# Altium footprint library Footprint_Joystick.PcbLib: 4 footprints
Each footprint in its own frame and in the unit in brackets; x right, y up, seen from the top. Pads: shape width x height; smd on the part's side, far side on the other; paste and mask are expansions set on the pad; w line width, h text height; cw(c..) or ccw(c..) is an arc to the next point about the centre after c.
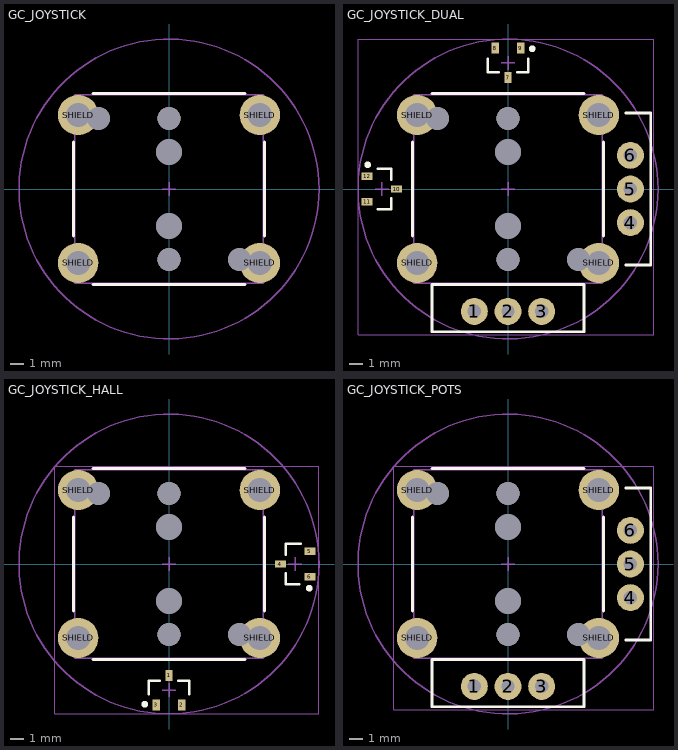
[diagram p0: the footprints below, top view; thin cyan lines are the x and y axes]

## GC_JOYSTICK [mm]
pads (10):
  round 3 hole 1.8: SHIELD(-6.75,-5.5) SHIELD(-6.75,5.5) SHIELD(6.75,-5.5) SHIELD(6.75,5.5)
  round 1.7 hole 1.7 unplated: SHIELD(-5.25,5.25) SHIELD(5.25,-5.25) ""(0,-5.25) ""(0,5.25)
  round 1.9 hole 1.9 unplated: ""(0,-2.75) ""(0,2.75)
Top Overlay:
  lines w0.2: -7.1,-3.5 -7.1,3.5 ; -5.65,-7.1 5.65,-7.1 ; -5.65,7.1 5.65,7.1 ; 7.1,-3.5 7.1,3.5
Top Assembly:
  circle w0.1: c0,0 r11.15
  lines w0.1: -7,-7 7,-7 7,7 -7,7 -7,-7
  text ".Designator" at -7.747,-1.27 h1.27
Top Courtyard:
  lines w0.1: -0.5,0 0.5,0 ; 0,-0.5 0,0.5

## GC_JOYSTICK_DUAL [mm]
pads (22):
  round 2 hole 1: 1(-2.5,-9.1) 2(0,-9.1) 3(2.5,-9.1) 4(9.1,-2.5) 5(9.1,0) 6(9.1,2.5)
  rect 0.55x0.8 smd: 7(0,8.28) 8(-0.95,10.48) 9(0.95,10.48)
  rect 0.8x0.55 smd: 10(-8.28,0) 11(-10.48,-0.95) 12(-10.48,0.95)
  round 3 hole 1.8: SHIELD(-6.75,-5.5) SHIELD(-6.75,5.5) SHIELD(6.75,-5.5) SHIELD(6.75,5.5)
  round 1.7 hole 1.7 unplated: ""(-5.25,5.25) ""(0,-5.25) ""(0,5.25) ""(5.25,-5.25)
  round 1.9 hole 1.9 unplated: ""(0,-2.75) ""(0,2.75)
Top Overlay:
  circle w0.25: c1.8,10.43 r0.125
  circle w0.25: c-10.43,1.8 r0.125
  lines w0.2: -9.68,-1.5 -8.68,-1.5 -8.68,-0.7 ; -9.68,1.5 -8.68,1.5 -8.68,0.7 ; -7.1,-3.5 -7.1,3.5 ; -5.65,7.1 5.65,7.1 ; -1.5,9.68 -1.5,8.68 -0.7,8.68 ; 0.7,8.68 1.5,8.68 1.5,9.68 ; 7.1,-3.5 7.1,3.5 ; 8.75,-5.65 10.6,-5.65 10.6,5.65 8.75,5.65 ; -5.65,-10.6 -5.65,-7.1 5.65,-7.1 5.65,-10.6 -5.65,-10.6
Top Assembly:
  circle w0.1: c0,0 r11.15
  lines w0.1: -7,-7 -7,7 7,7 7,-7 -7,-7
  text ".Designator" at -7.747,-1.27 h1.27
Top Courtyard:
  lines w0.05: -11.13,-10.85 -11.13,11.13 10.85,11.13 10.85,-10.85 -11.13,-10.85
  lines w0.1: -9.88,0 -8.88,0 ; -9.38,-0.5 -9.38,0.5 ; -0.5,0 0.5,0 ; -0.5,9.38 0.5,9.38 ; 0,-0.5 0,0.5 ; 0,8.88 0,9.88
3D body "SOT95P237X112-3N.step": height 1.12, standoff 0, extent -1.52,8.06 1.52,10.7
3D body "SOT95P237X112-3N.step": height 1.12, standoff 0, extent -10.7,-1.52 -8.06,1.52

## GC_JOYSTICK_HALL [mm]
pads (16):
  rect 0.55x0.8 smd: 1(0,-8.28) 2(0.95,-10.48) 3(-0.95,-10.48)
  rect 0.8x0.55 smd: 4(8.28,0) 5(10.48,0.95) 6(10.48,-0.95)
  round 3 hole 1.8: SHIELD(-6.75,-5.5) SHIELD(-6.75,5.5) SHIELD(6.75,-5.5) SHIELD(6.75,5.5)
  round 1.7 hole 1.7 unplated: ""(-5.25,5.25) ""(0,-5.25) ""(0,5.25) ""(5.25,-5.25)
  round 1.9 hole 1.9 unplated: ""(0,-2.75) ""(0,2.75)
Top Overlay:
  circle w0.25: c10.43,-1.8 r0.125
  circle w0.25: c-1.8,-10.43 r0.125
  lines w0.2: -7.1,-3.5 -7.1,3.5 ; -5.65,-7.1 5.65,-7.1 ; -5.65,7.1 5.65,7.1 ; -1.5,-9.68 -1.5,-8.68 -0.7,-8.68 ; 0.7,-8.68 1.5,-8.68 1.5,-9.68 ; 7.1,-3.5 7.1,3.5 ; 8.68,-0.7 8.68,-1.5 9.68,-1.5 ; 8.68,0.7 8.68,1.5 ; 8.78,1.5 9.78,1.5
Top Assembly:
  circle w0.1: c0,0 r11.15
  lines w0.1: -7,-7 -7,7 7,7 7,-7 -7,-7
  text ".Designator" at -7.747,-1.27 h1.27
Top Courtyard:
  lines w0.05: -8.5,-11.13 11.13,-11.13 11.13,7.25 -8.5,7.25 -8.5,-11.13
  lines w0.1: -0.5,-9.38 0.5,-9.38 ; -0.5,0 0.5,0 ; 0,-9.88 0,-8.88 ; 0,-0.5 0,0.5 ; 8.88,0 9.88,0 ; 9.38,-0.5 9.38,0.5
3D body "SOT95P237X112-3N.step": height 1.12, standoff 0, extent 8.06,-1.52 10.7,1.52
3D body "SOT95P237X112-3N.step": height 1.12, standoff 0, extent -1.52,-10.7 1.52,-8.06

## GC_JOYSTICK_POTS [mm]
pads (16):
  round 2 hole 1: 1(-2.5,-9.1) 2(0,-9.1) 3(2.5,-9.1) 4(9.1,-2.5) 5(9.1,0) 6(9.1,2.5)
  round 3 hole 1.8: SHIELD(-6.75,-5.5) SHIELD(-6.75,5.5) SHIELD(6.75,-5.5) SHIELD(6.75,5.5)
  round 1.7 hole 1.7 unplated: SHIELD(-5.25,5.25) SHIELD(5.25,-5.25) ""(0,-5.25) ""(0,5.25)
  round 1.9 hole 1.9 unplated: ""(0,-2.75) ""(0,2.75)
Top Overlay:
  lines w0.2: -7.1,-3.5 -7.1,3.5 ; -5.65,7.1 5.65,7.1 ; 7.1,-3.5 7.1,3.5 ; 8.75,-5.65 10.6,-5.65 10.6,5.65 8.75,5.65 ; -5.65,-10.6 -5.65,-7.1 5.65,-7.1 5.65,-10.6 -5.65,-10.6
Top Assembly:
  circle w0.1: c0,0 r11.15
  lines w0.1: -7,-7 7,-7 7,7 -7,7 -7,-7
  text ".Designator" at -7.747,-1.27 h1.27
Top Courtyard:
  lines w0.05: -8.5,-10.85 10.85,-10.85 10.85,7.25 -8.5,7.25 -8.5,-10.85
  lines w0.1: -0.5,0 0.5,0 ; 0,-0.5 0,0.5